# Altium footprint library WE WR_COM 692122030100.PcbLib: 1 footprints
Each footprint in its own frame and in the unit in brackets; x right, y up, seen from the top. Pads: shape width x height; smd on the part's side, far side on the other; paste and mask are expansions set on the pad; w line width, h text height; cw(c..) or ccw(c..) is an arc to the next point about the centre after c.
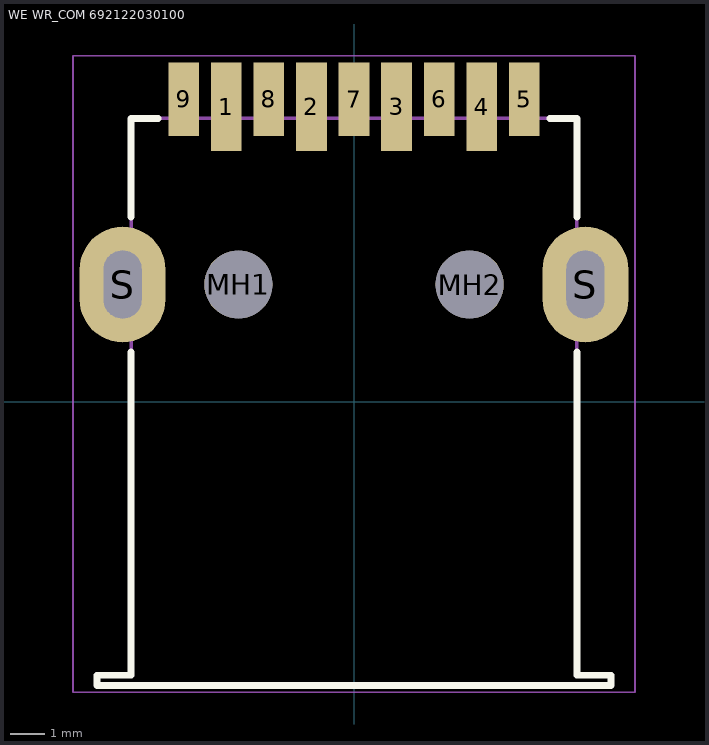
[diagram p0: the footprint, top view; thin cyan lines are the x and y axes]

## WE WR_COM 692122030100 [mm] "USB 3.0 Type A Horizontal SMD"
height 6.99
pads (13):
  rect 0.9x2.6 smd: 1(-3.75,8.67) 2(-1.25,8.67) 3(1.25,8.67) 4(3.75,8.67)
  rect 0.9x2.15 smd: 5(5,8.895) 6(2.5,8.895) 7(0,8.895) 8(-2.5,8.895) 9(-5,8.895)
  round 2 hole 2 unplated: MH1(-3.4,3.45) MH2(3.4,3.45)
  oval 2.52x3.4 hole 1.12 slot 2 at 90 deg: S(-6.8,3.45) S(6.8,3.45)
Top Overlay:
  lines w0.2: -6.55,1.47 -6.55,-8.03 -7.55,-8.03 -7.55,-8.33 7.55,-8.33 7.55,-8.03 6.55,-8.03 6.55,1.47 ; -6.55,5.43 -6.55,8.33 -5.75,8.33 ; 5.75,8.33 6.55,8.33 6.55,5.43
Top Assembly:
  lines w0.1: -7.55,-8.33 -7.55,-8.03 -6.55,-8.03 -6.55,8.33 6.55,8.33 6.55,-8.03 7.55,-8.03 7.55,-8.33 -7.55,-8.33
Top Courtyard:
  lines w0.05: -8.26,-8.53 8.26,-8.53 8.26,10.17 -8.26,10.17 -8.26,-8.53
Top Designator:
  text ".Designator" at -7.498,-0.5 h1.5
3D body "692122030100.stp": height 7.95, standoff -2.29, extent -7.55,-8.33 7.55,9.47